# EAGLE library part AD623 (library gumsense)
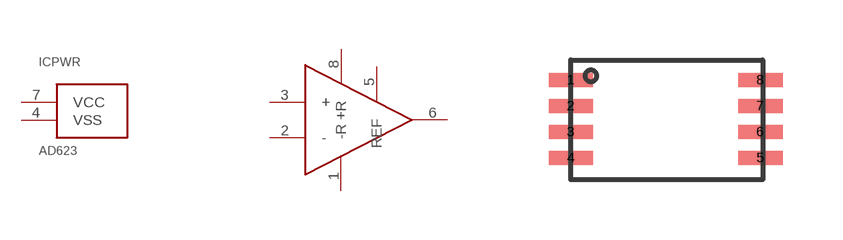
[diagram p4: symbol with the pads of USOIC8-SPACE; footprint USOIC8-SPACE]

Designator prefix IC; gates G$1=AD623 PWR=PWR

## AD623ARM  [USOIC8-SPACE]
1  G$1:-R
2  G$1:-
3  G$1:+
4  PWR:VSS
5  G$1:REF
6  G$1:OUT
7  PWR:VCC
8  G$1:+R

## Footprint USOIC8-SPACE (pad centres in mm)
smd 1.11 x 0.35: 1 0,0; 2 0,-0.65; 3 0,-1.3; 4 0,-1.95; 5 4.74,-1.95; 6 4.74,-1.3; 7 4.74,-0.65; 8 4.74,0